# EAGLE library part 61204021721 (library Wuerth_Elektronik_eiCan_Box_Header_&_IDC_Connectors_v1.2)
WR-BHD 2.54mm Male Angled Box Header, 40 Pins
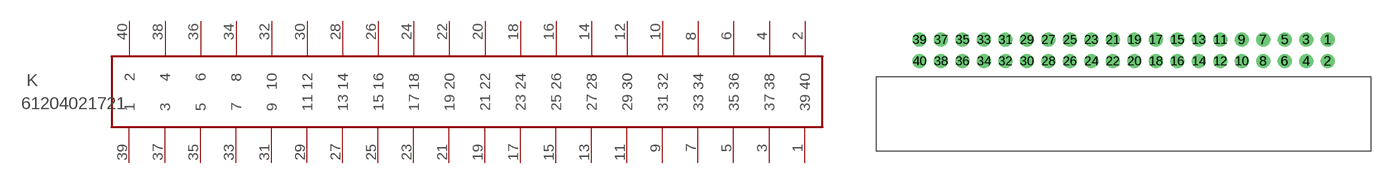
[diagram p98: symbol with the pads of 61204021721; footprint 61204021721]

Designator prefix K

## 61204021721  [61204021721]
1  39  pas
2  40  pas
3  37  pas
4  38  pas
5  35  pas
6  36  pas
7  33  pas
8  34  pas
9  31  pas
10  32  pas
11  29  pas
12  30  pas
13  27  pas
14  28  pas
15  25  pas
16  26  pas
17  23  pas
18  24  pas
19  21  pas
20  22  pas
21  19  pas
22  20  pas
23  17  pas
24  18  pas
25  15  pas
26  16  pas
27  13  pas
28  14  pas
29  11  pas
30  12  pas
31  9  pas
32  10  pas
33  7  pas
34  8  pas
35  5  pas
36  6  pas
37  3  pas
38  4  pas
39  1  pas
40  2  pas

## Footprint 61204021721 (pad centres in mm)
WR-BHD 2.54mm Male Angled Box Header, 40 Pins
drill 1.1 round: 1 2.54,1.27; 2 2.54,-1.27; 3 0,1.27; 4 0,-1.27; 5 -2.54,1.27; 6 -2.54,-1.27; 7 -5.08,1.27; 8 -5.08,-1.27; 9 -7.62,1.27; 10 -7.62,-1.27; 11 -10.16,1.27; 12 -10.16,-1.27; 13 -12.7,1.27; 14 -12.7,-1.27; 15 -15.24,1.27; 16 -15.24,-1.27; 17 -17.78,1.27; 18 -17.78,-1.27; 19 -20.32,1.27; 20 -20.32,-1.27; 21 -22.86,1.27; 22 -22.86,-1.27; 23 -25.4,1.27; 24 -25.4,-1.27; 25 -27.94,1.27; 26 -27.94,-1.27; 27 -30.48,1.27; 28 -30.48,-1.27; 29 -33.02,1.27; 30 -33.02,-1.27; 31 -35.56,1.27; 32 -35.56,-1.27; 33 -38.1,1.27; 34 -38.1,-1.27; 35 -40.64,1.27; 36 -40.64,-1.27; 37 -43.18,1.27; 38 -43.18,-1.27; 39 -45.72,1.27; 40 -45.72,-1.27